# EAGLE library part 5035481020 (library connector)
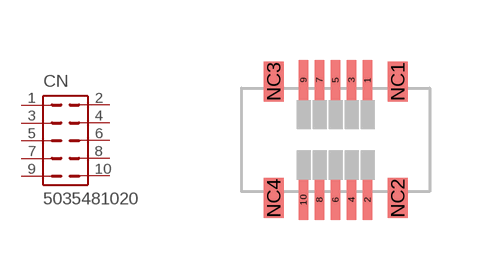
[diagram p1: symbol with the pads of 5035481020; footprint 5035481020]

Designator prefix CN

## 5035481020  [5035481020]
1  1  pas
2  2  pas
3  3  pas
4  4  pas
5  5  pas
6  6  pas
7  7  pas
8  8  pas
9  9  pas
10  10  pas

## Footprint 5035481020 (pad centres in mm)
smd 0.24 x 1: 1 0.8,1.5; 2 0.8,-1.5; 3 0.4,1.5; 4 0.4,-1.5; 5 0,1.5; 6 0,-1.5; 7 -0.4,1.5; 8 -0.4,-1.5; 9 -0.8,1.5; 10 -0.8,-1.5
smd 0.5 x 1: NC1 1.55,1.46; NC2 1.55,-1.46; NC3 -1.55,1.46; NC4 -1.55,-1.46